# Altium schematic symbol library AP2141DMPG-13.SchLib: 1 symbol
Pins are listed as number, name and electrical type; pins without a type are passive.

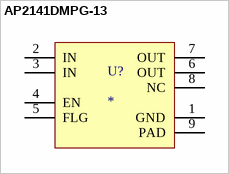
[diagram p0: symbol AP2141DMPG-13]

## AP2141DMPG-13
designator U?
pins: 1 GND, 2 IN, 3 IN, 4 EN, 5 FLG, 6 OUT, 7 OUT, 8 NC, 9 PAD